# EAGLE library part 7496 (library tda7496l)
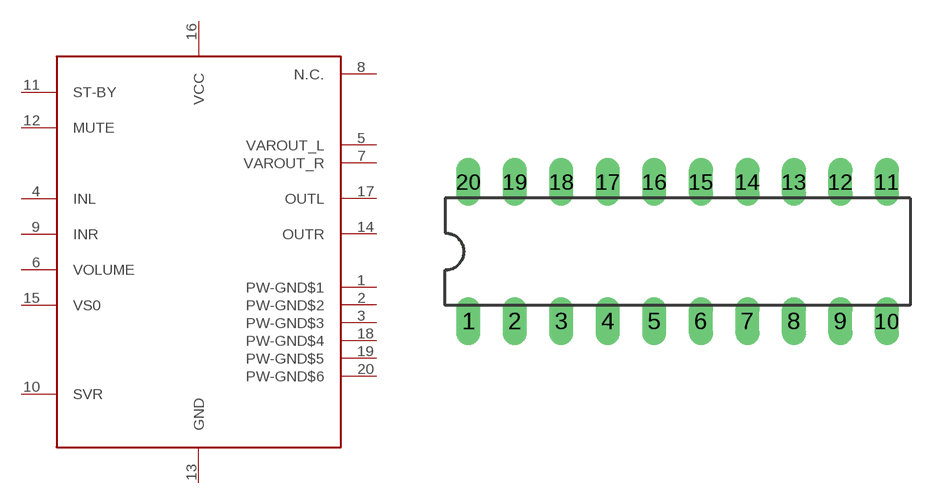
[diagram p0: symbol with the pads of DIL20; footprint DIL20]

Designator prefix IC

## 7496  [DIL20]
1  PW-GND$1  sup
2  PW-GND$2  sup
3  PW-GND$3  sup
4  INL  in
5  VAROUT_L  out
6  VOLUME  in
7  VAROUT_R  out
8  N.C.  nc
9  INR  in
10  SVR  in
11  ST-BY  in
12  MUTE  in
13  GND  sup
14  OUTR  out
15  VS0  in
16  VCC  pwr
17  OUTL  out
18  PW-GND$4  sup
19  PW-GND$5  sup
20  PW-GND$6  sup

## Footprint DIL20 (pad centres in mm)
Dual In Line Package
drill 0.813 long: 1 -11.43,-3.81; 2 -8.89,-3.81; 3 -6.35,-3.81; 4 -3.81,-3.81; 5 -1.27,-3.81; 6 1.27,-3.81; 7 3.81,-3.81; 8 6.35,-3.81; 9 8.89,-3.81; 10 11.43,-3.81; 11 11.43,3.81; 12 8.89,3.81; 13 6.35,3.81; 14 3.81,3.81; 15 1.27,3.81; 16 -1.27,3.81; 17 -3.81,3.81; 18 -6.35,3.81; 19 -8.89,3.81; 20 -11.43,3.81